# Altium schematic symbol library BD5244FVE-TR.SchLib: 2 symbols
Pins are listed as number, name and electrical type; pins without a type are passive.

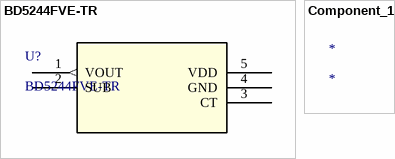
[diagram p0: symbols BD5244FVE-TR to Component_1]

## BD5244FVE-TR
designator U?
No Description Available; Mfr_Name: ROHM Semiconductor; Copyright: Copyright (C) 2023 Ultra Librarian. All rights reserved.; Manufacturer_Part_Number: BD5244FVE-TR; Digi-Key_Part_Number_1: BD5244FVETR-ND; Digi-Key_Part_Number_2: BD5244FVECT-ND; Digi-Key_Part_Number_3: BD5244FVEDKR-ND; Digi-Key_Part_Number_4: 846-BD5244FVE-TR-ND; RefDes: RefDes; Type: DEV
footprint VSOF5_ROM
pins: 1 VOUT (out), 2 SUB, 3 CT, 4 GND, 5 VDD (power)

## Component_1
designator *